# Altium schematic symbol library Schlib_Assmann_Electronics.SchLib: 1 symbol
Pins are listed as number, name and electrical type; pins without a type are passive.

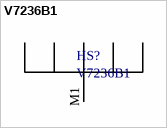
[diagram p0: symbol V7236B1]

## V7236B1
designator HS?
Heatsink 19.05x13.21x9.53 mm; Manufacturer: Assmann Electronics Inc.; Part Number: V7236B1
footprint V7236B1
pins: M1